# EAGLE library part XC9572XL-TQ100 (library steves)
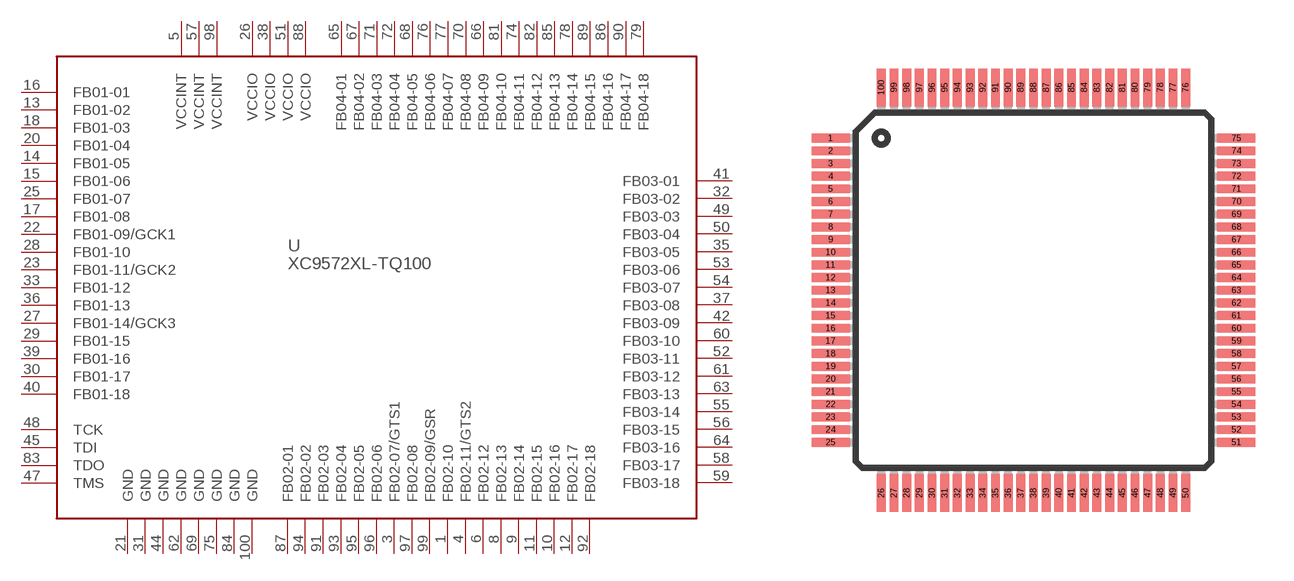
[diagram p29: symbol with the pads of TQFP-100-0.5; footprint TQFP-100-0.5]

Designator prefix -

## XC9572XL-TQ100  [TQFP-100-0.5]
1  FB02-10
3  FB02-07/GTS1
4  FB02-11/GTS2
5  VCCINT  pwr
6  FB02-12
8  FB02-13
9  FB02-14
10  FB02-16
11  FB02-15
12  FB02-17
13  FB01-02
14  FB01-05
15  FB01-06
16  FB01-01
17  FB01-08
18  FB01-03
20  FB01-04
21  GND  pwr
22  FB01-09/GCK1
23  FB01-11/GCK2
25  FB01-07
26  VCCIO  pwr
27  FB01-14/GCK3
28  FB01-10
29  FB01-15
30  FB01-17
31  GND  pwr
32  FB03-02
33  FB01-12
35  FB03-05
36  FB01-13
37  FB03-08
38  VCCIO  pwr
39  FB01-16
40  FB01-18
41  FB03-01
42  FB03-09
44  GND  pwr
45  TDI  in
47  TMS  in
48  TCK  in
49  FB03-03
50  FB03-04
51  VCCIO  pwr
52  FB03-11
53  FB03-06
54  FB03-07
55  FB03-14
56  FB03-15
57  VCCINT  pwr
58  FB03-17
59  FB03-18
60  FB03-10
61  FB03-12
62  GND  pwr
63  FB03-13
64  FB03-16
65  FB04-01
66  FB04-09
67  FB04-02
68  FB04-05
69  GND  pwr
70  FB04-08
71  FB04-03
72  FB04-04
74  FB04-11
75  GND  pwr
76  FB04-06
77  FB04-07
78  FB04-14
79  FB04-18
81  FB04-10
82  FB04-12
83  TDO  out
84  GND  pwr
85  FB04-13
86  FB04-16
87  FB02-01
88  VCCIO  pwr
89  FB04-15
90  FB04-17
91  FB02-03
92  FB02-18
93  FB02-04
94  FB02-02
95  FB02-05
96  FB02-06
97  FB02-08
98  VCCINT  pwr
99  FB02-09/GSR
100  GND  pwr

## Footprint TQFP-100-0.5 (pad centres in mm)
smd 1.5 x 0.35: 1 -8,6; 2 -8,5.5; 3 -8,5; 4 -8,4.5; 5 -8,4; 6 -8,3.5; 7 -8,3; 8 -8,2.5; 9 -8,2; 10 -8,1.5; 11 -8,1; 12 -8,0.5; 13 -8,0; 14 -8,-0.5; 15 -8,-1; 16 -8,-1.5; 17 -8,-2; 18 -8,-2.5; 19 -8,-3; 20 -8,-3.5; 21 -8,-4; 22 -8,-4.5; 23 -8,-5; 24 -8,-5.5; 25 -8,-6; 51 8,-6; 52 8,-5.5; 53 8,-5; 54 8,-4.5; 55 8,-4; 56 8,-3.5; 57 8,-3; 58 8,-2.5; 59 8,-2; 60 8,-1.5; 61 8,-1; 62 8,-0.5; 63 8,0; 64 8,0.5; 65 8,1; 66 8,1.5; 67 8,2; 68 8,2.5; 69 8,3; 70 8,3.5; 71 8,4; 72 8,4.5; 73 8,5; 74 8,5.5; 75 8,6
smd 0.35 x 1.5: 26 -6,-8; 27 -5.5,-8; 28 -5,-8; 29 -4.5,-8; 30 -4,-8; 31 -3.5,-8; 32 -3,-8; 33 -2.5,-8; 34 -2,-8; 35 -1.5,-8; 36 -1,-8; 37 -0.5,-8; 38 0,-8; 39 0.5,-8; 40 1,-8; 41 1.5,-8; 42 2,-8; 43 2.5,-8; 44 3,-8; 45 3.5,-8; 46 4,-8; 47 4.5,-8; 48 5,-8; 49 5.5,-8; 50 6,-8; 76 6,8; 77 5.5,8; 78 5,8; 79 4.5,8; 80 4,8; 81 3.5,8; 82 3,8; 83 2.5,8; 84 2,8; 85 1.5,8; 86 1,8; 87 0.5,8; 88 0,8; 89 -0.5,8; 90 -1,8; 91 -1.5,8; 92 -2,8; 93 -2.5,8; 94 -3,8; 95 -3.5,8; 96 -4,8; 97 -4.5,8; 98 -5,8; 99 -5.5,8; 100 -6,8